# Altium footprint library 653104131822.PcbLib: 1 footprints
Each footprint in its own frame and in the unit in brackets; x right, y up, seen from the top. Pads: shape width x height; smd on the part's side, far side on the other; paste and mask are expansions set on the pad; w line width, h text height; cw(c..) or ccw(c..) is an arc to the next point about the centre after c.
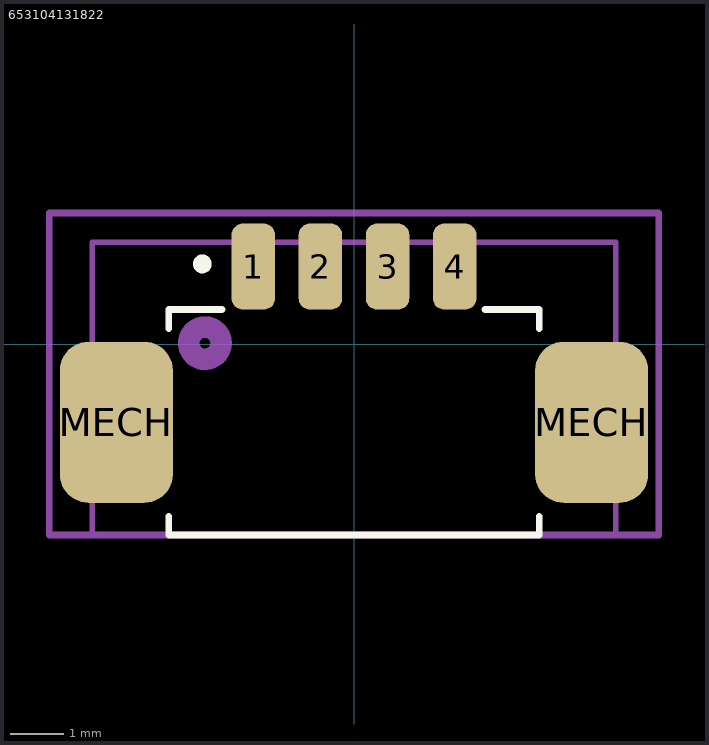
[diagram p0: the footprint, top view; thin cyan lines are the x and y axes]

## 653104131822 [mm] "SMT Male Horizontal Shrouded Header - 04p 1 row - T & R packaging"
height 3.4
pads (6):
  rrect50% 0.81x1.6 smd: 1(-1.875,1.45) 2(-0.625,1.45) 3(0.625,1.45) 4(1.875,1.45)
  rrect50% 2.1x3 smd: MECH(-4.425,-1.45) MECH(4.425,-1.45)
Top Overlay:
  circle w0.2: c-2.825,1.5 r0.075
  lines w0.127: -3.45,-3.2 -3.45,-3.55 3.45,-3.55 3.45,-3.2 ; -3.45,0.3 -3.45,0.65 -2.46,0.65 ; 2.44,0.65 2.66,0.65 ; 3.45,0.3 3.45,0.65 2.66,0.65 ; -2.46,0.65 -2.46,0.65 ; 2.66,0.65 2.66,0.65
Top Assembly:
  circle w0.4: c-2.775,0.025 r0.3
  lines w0.1: -4.875,-3.55 4.875,-3.55 4.875,1.9 -4.875,1.9 -4.875,-3.55
  text "'.Designator'" at -2.838,-1.604 h0.5
Top Courtyard:
  lines w0.127: -5.675,-3.55 -5.675,2.45 5.675,2.45 5.675,-3.55 -5.675,-3.55
3D body "653104131822 (rev1).stp": height 3.42, standoff 0.01, extent -4.875,-3.6 4.875,1.81